# Altium footprint library PCB_PassiveCap.PcbLib: 8 footprints
Each footprint in its own frame and in the unit in brackets; x right, y up, seen from the top. Pads: shape width x height; smd on the part's side, far side on the other; paste and mask are expansions set on the pad; w line width, h text height; cw(c..) or ccw(c..) is an arc to the next point about the centre after c.
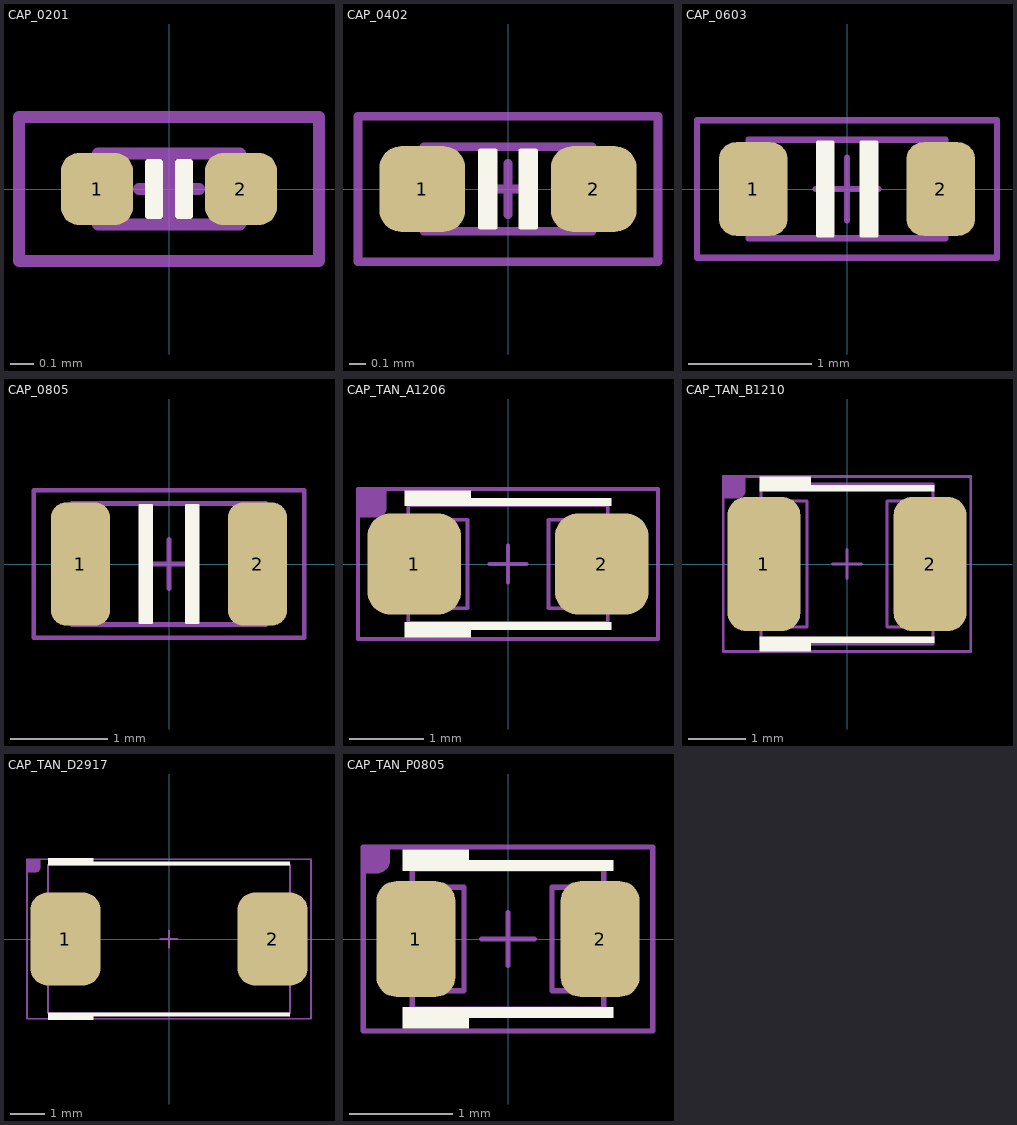
[diagram p0: the footprints below, top view; thin cyan lines are the x and y axes]

## CAP_0201 [mil]
height 15.75
pads (2):
  rrect50% 12x12 smd: 1(-12,0) 2(12,0)
Top Overlay:
  region: -3.5,-4.5 -3.5,4.5 -1.5,4.5 -1.5,-4.5
  region: 3.5,4.5 3.5,-4.5 1.5,-4.5 1.5,4.5
  lines w1: -3.5,-4.5 -1.5,-4.5 -1.5,4.5 -3.5,4.5 -3.5,-4.5 ; 1.5,-4.5 1.5,4.5 3.5,4.5 3.5,-4.5 1.5,-4.5
Mechanical 13:
  lines w2: -5,0 5,0 ; 0,-5 0,5 ; -11.81,-5.91 -11.81,5.91 11.81,5.91 11.81,-5.91 -11.81,-5.91
T-Component:
  lines w2: -25,-12 -25,12 25,12 25,-12 -25,-12
  text ".Designator" at -13,-8 h30
3D body "CAPC0603X03L.step": height 11.81, standoff 0, extent -11.81,-5.9 11.81,5.91

## CAP_0402 [mil]
height 21.65
pads (2):
  rrect50% 20x20 smd: 1(-20,0) 2(20,0)
Top Overlay:
  region: -6.5,9 -3,9 -3,-9 -6.5,-9
  region: 6.5,-9 3,-9 3,9 6.5,9
  lines w1: -6.5,-9 -3,-9 -3,9 -6.5,9 -6.5,-9 ; 3,-9 3,9 6.5,9 6.5,-9 3,-9
Mechanical 13:
  lines w2: -6,0 6,0 ; 0,-6 0,6 ; -19.69,-9.84 -19.69,9.84 19.68,9.84 19.68,-9.84 -19.69,-9.84
T-Component:
  lines w2: -35,-17 -35,17 35,17 35,-17 -35,-17
  text ".Designator" at -15,-10 h40
3D body "CAPC1005X05L.step": height 19.68, standoff 0, extent -19.68,-9.84 19.69,9.85

## CAP_0603 [mil]
height 31.5
pads (2):
  rrect50% 22x30 smd: 1(-30,0) 2(30,0)
Top Overlay:
  region: -4.5,15 -9.5,15 -9.5,-15 -4.5,-15
  region: 4.5,-15 9.5,-15 9.5,15 4.5,15
  lines w1: -9.5,-15 -9.5,15 -4.5,15 -4.5,-15 -9.5,-15 ; 4.5,-15 9.5,-15 9.5,15 4.5,15 4.5,-15
Mechanical 13:
  lines w2: -10,0 10,0 ; 0,-10 0,10 ; -31.5,-15.75 -31.5,15.75 31.5,15.75 31.5,-15.75 -31.5,-15.75
T-Component:
  lines w2: -48,-22 -48,22 48,22 48,-22 -48,-22
  text ".Designator" at -25,-15 h60
3D body "CAPC1608X08L.step": height 31.5, standoff 0, extent -31.49,-15.74 31.5,15.75

## CAP_0805 [mil]
height 47.24
pads (2):
  rrect50% 24x50 smd: 1(-36,0) 2(36,0)
Top Overlay:
  region: -12,24 -7,24 -7,-24 -12,-24
  region: 12,-24 7,-24 7,24 12,24
  lines w1: -12,-24 -7,-24 -7,24 -12,24 -12,-24 ; 7,-24 7,24 12,24 12,-24 7,-24
Mechanical 13:
  lines w2: -10,0 10,0 ; 0,-10 0,10 ; -39.37,-24.61 -39.37,24.61 39.37,24.61 39.37,-24.61 -39.37,-24.61
T-Component:
  lines w2: -55,-30 -55,30 55,30 55,-30 -55,-30
  text ".Designator" at -31,-20 h80
3D body "CAPC2012X10L.step": height 39.37, standoff 0, extent -39.37,-24.6 39.37,24.61

## CAP_TAN_A1206 [mil]
height 70.87
pads (2):
  rrect50% 50x54 smd: 1(-50,0) 2(50,0)
Top Overlay:
  region: 55,31 -55,31 -55,39 -20,39 -20,35 55,35
  region: 55,-35 -20,-35 -20,-39 -55,-39 -55,-31 55,-31
Mechanical 13:
  lines w2: -10,0 10,0 ; 0,-10 0,10 ; -63,-23.63 -21.66,-23.63 -21.66,23.62 -63,23.62 -63,-23.63 ; -53.16,-31.5 -53.16,31.5 53.15,31.5 53.15,-31.5 -53.16,-31.5 ; 21.65,-23.62 62.99,-23.62 62.99,23.62 21.65,23.62 21.65,-23.62
T-Component:
  region: -80,40 -65,40 -65,30 -65,29.01 -65.76,27.17 -67.17,25.76 -69.01,25 -70,25 -80,25
  lines w2: -80,-40 -80,40 80,40 80,-40 -80,-40
3D body "CAPMP3216X180N.STEP": height 70.87, standoff 0, extent -62.99,-31.49 63,31.5

## CAP_TAN_B1210 [mil]
height 82.68
pads (2):
  rrect50% 50x92 smd: 1(-57,0) 2(57,0)
Top Overlay:
  region: 60,50 -60,50 -60,60 -25,60 -25,54 60,54
  region: 60,-54 -25,-54 -25,-60 -60,-60 -60,-50 60,-50
Mechanical 13:
  lines w2: -10,0 10,0 ; 0,-10 0,10 ; -68.89,-43.3 -27.55,-43.3 -27.55,43.31 -68.89,43.31 -68.89,-43.3 ; -59.06,-55.11 -59.06,55.12 59.05,55.12 59.05,-55.11 -59.06,-55.11 ; 27.56,-43.31 27.56,43.31 68.9,43.31 68.9,-43.31 27.56,-43.31
T-Component:
  region: -85,60 -70,60 -70,50 -70,49.01 -70.76,47.17 -72.17,45.76 -74.01,45 -75,45 -85,45
  lines w2: -85,-60 85,-60 85,60 -85,60 -85,-60
3D body "CAPMP3528X210N.STEP": height 82.68, standoff 0, extent -68.89,-55.11 68.91,55.13

## CAP_TAN_D2917 [mil]
height 122.05
pads (2):
  rrect50% 80x106 smd: 1(-118,0) 2(118,0)
Top Overlay:
  region: 137.8,84 -137.8,84 -137.8,92 -86.61,92 -86.61,88 137.8,88
  region: 137.8,-88 -86.61,-88 -86.61,-92 -137.8,-92 -137.8,-84 137.8,-84
Mechanical 13:
  lines w2: -10,0 10,0 ; 0,-10 0,10 ; -143.7,-47.24 -86.61,-47.24 -86.61,47.24 -143.7,47.24 -143.7,-47.24 ; -137.8,-84.65 -137.8,84.65 137.8,84.65 137.8,-84.65 -137.8,-84.65 ; 86.61,-47.24 86.61,47.24 143.7,47.24 143.7,-47.24 86.61,-47.24
T-Component:
  region: -162,91 -147,91 -147,81 -147,80.01 -147.76,78.17 -149.17,76.76 -151.01,76 -152,76 -162,76
  lines w2: -162,-91 -162,91 162,91 162,-91 -162,-91
3D body "CAPMP7343X310N.STEP": height 122.05, standoff 0, extent -149.6,-77.75 149.61,77.76

## CAP_TAN_P0805 [mil]
height 59.06
pads (2):
  rrect50% 30x44 smd: 1(-35,0) 2(35,0)
Top Overlay:
  region: 40,-30 -15,-30 -15,-34 -40,-34 -40,-26 40,-26
  region: 40,26 -40,26 -40,34 -15,34 -15,30 40,30
Mechanical 13:
  lines w2: -10,0 10,0 ; 0,-10 0,10 ; -40.35,-19.68 -40.35,19.68 -16.73,19.68 -16.73,-19.68 -40.35,-19.68 ; -36.42,-26.57 36.42,-26.57 36.42,26.57 -36.42,26.57 -36.42,-26.57 ; 16.73,-19.68 16.73,19.68 40.35,19.68 40.35,-19.68 16.73,-19.68
T-Component:
  region: -55,35 -45,35 -45,30 -45,29.01 -45.76,27.17 -47.17,25.76 -49.01,25 -50,25 -55,25
  lines w2: -55,-35 -55,35 55,35 55,-35 -55,-35
  text ".Designator" at -30,-20 h80
3D body "CAPMP2012X150N.STEP": height 59.06, standoff 0, extent -40.35,-26.57 40.36,26.58